# Altium footprint library DIODES INC.PcbLib: 1 footprints
Each footprint in its own frame and in the unit in brackets; x right, y up, seen from the top. Pads: shape width x height; smd on the part's side, far side on the other; paste and mask are expansions set on the pad; w line width, h text height; cw(c..) or ccw(c..) is an arc to the next point about the centre after c.
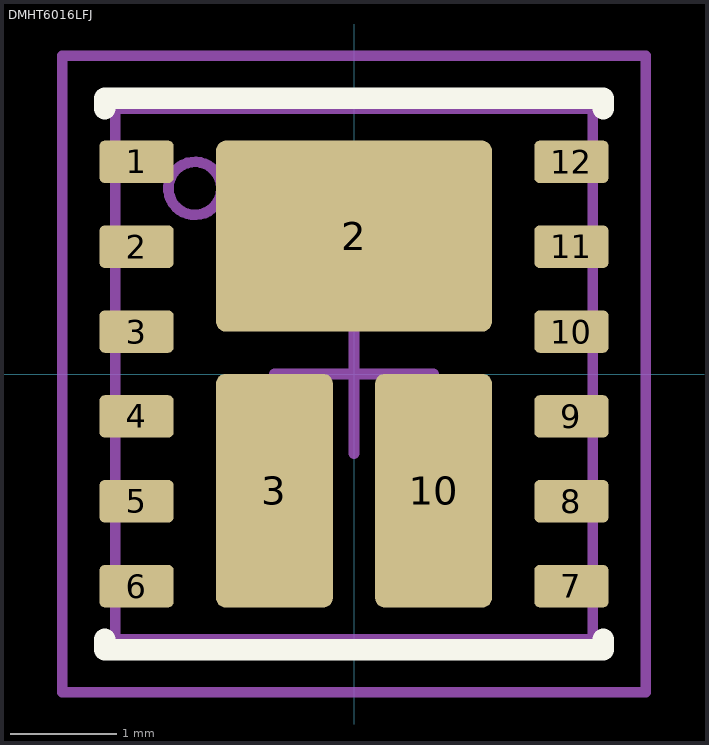
[diagram p0: the footprint, top view; thin cyan lines are the x and y axes]

## DMHT6016LFJ [mm] "60V N-CHANNEL ENHANCEMENT MODE MOSFET H-BRIDGE"
height 0.8
pads (15):
  rrect25% 0.7x0.4 smd: 1(-2.05,2) 2(-2.05,1.2) 3(-2.05,0.4) 4(-2.05,-0.4) 5(-2.05,-1.2) 6(-2.05,-2) 7(2.05,-2) 8(2.05,-1.2) 9(2.05,-0.4) 10(2.05,0.4) 11(2.05,1.2) 12(2.05,2)
  rrect10% 2.6x1.8 smd: 2(0,1.3)
  rrect15% 1.1x2.2 smd: 3(-0.75,-1.1) 10(0.75,-1.1)
Top Overlay:
  lines w0.2: -2.35,-2.5 -2.35,-2.6 2.35,-2.6 2.35,-2.5 ; -2.35,2.5 -2.35,2.6 2.35,2.6 2.35,2.5
3D Top:
  circle w0.1: c-1.5,1.75 r0.25
  lines w0.1: -2.25,-2.5 2.25,-2.5 2.25,2.5 -2.25,2.5 -2.25,-2.5
Courtyard Top:
  lines w0.1: -0.75,0 0.75,0 ; 0,-0.75 0,0.75 ; -2.75,-3 -2.75,3 2.75,3 2.75,-3 -2.75,-3
3D body: height 0.85, standoff 0.8, extent -1.698,1.55 -1.3,1.95
3D body: height 0.8, standoff 0, extent -2.25,-2.5 2.25,2.5